# EAGLE library part PIC18F25K50 (library pic18f2xk50)
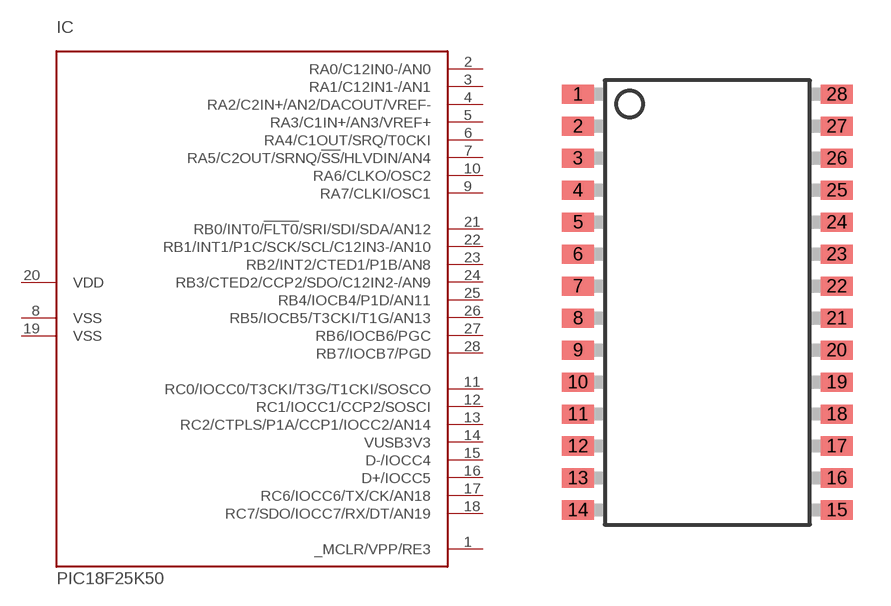
[diagram p0: symbol with the pads of SO-28W; footprint SO-28W]

Designator prefix IC

## PIC18F25K50  [SO-28W]
1  _MCLR/VPP/RE3  in
2  RA0/C12IN0-/AN0
3  RA1/C12IN1-/AN1
4  RA2/C2IN+/AN2/DACOUT/VREF-
5  RA3/C1IN+/AN3/VREF+
6  RA4/C1OUT/SRQ/T0CKI
7  RA5/C2OUT/SRNQ/!SS!/HLVDIN/AN4
8  VSS  pwr
9  RA7/CLKI/OSC1
10  RA6/CLKO/OSC2
11  RC0/IOCC0/T3CKI/T3G/T1CKI/SOSCO
12  RC1/IOCC1/CCP2/SOSCI
13  RC2/CTPLS/P1A/CCP1/IOCC2/AN14
14  VUSB3V3
15  D-/IOCC4
16  D+/IOCC5
17  RC6/IOCC6/TX/CK/AN18
18  RC7/SDO/IOCC7/RX/DT/AN19
19  VSS  pwr
20  VDD  pwr
21  RB0/INT0/!FLT0!/SRI/SDI/SDA/AN12
22  RB1/INT1/P1C/SCK/SCL/C12IN3-/AN10
23  RB2/INT2/CTED1/P1B/AN8
24  RB3/CTED2/CCP2/SDO/C12IN2-/AN9
25  RB4/IOCB4/P1D/AN11
26  RB5/IOCB5/T3CKI/T1G/AN13
27  RB6/IOCB6/PGC
28  RB7/IOCB7/PGD

## Footprint SO-28W (pad centres in mm)
smd 1.27 x 0.762: 1 -5.207,8.89; 2 -5.207,7.62; 3 -5.207,6.35; 4 -5.207,5.08; 5 -5.207,3.81; 6 -5.207,2.54; 7 -5.207,1.27; 8 -5.207,0; 9 -5.207,-1.27; 10 -5.207,-2.54; 11 -5.207,-3.81; 12 -5.207,-5.08; 13 -5.207,-6.35; 14 -5.207,-7.62; 15 5.08,-7.62; 16 5.08,-6.35; 17 5.08,-5.08; 18 5.08,-3.81; 19 5.08,-2.54; 20 5.08,-1.27; 21 5.08,0; 22 5.08,1.27; 23 5.08,2.54; 24 5.08,3.81; 25 5.08,5.08; 26 5.08,6.35; 27 5.08,7.62; 28 5.08,8.89